# EAGLE library part 61901019521 (library Wurth_Connectors_WR-WTB)
WR-WTB 2.54 mm Male Right Angled Locking Header Top Locking KIND PROPERTIES: Pitch:2.54 mm Gender:Male MATERIAL PROPERTIES: Insulator Material :Nylon 66 Insulator Flammability Rating:UL94 V-0 Insulator Color:Beige Contact Material:Copper Alloy Contact Plating:Tin Contact Type:Stamped GENERAL INFORMATION Operating Temperature:-40 up to +105 °C Compliance: RoHS Working Voltage:250 V (AC) Withstanding Voltage:1000 V (AC) Contact Resistance:20 mΩ RISO:1000 MΩ CERTIFICATION UL Approval:E323964 PACKAGING PROPERTIES Packaging:Bag <https://katalog.we-online.com/media/images/v2/o33347v209%20Family_WR-WTB_6190xx19521.jpg> Details see: https://katalog.we-online.com/en/em/WTB_2_54_MALE_RIGHT_ANGLED_TOP_LOCKING_6190XX19521 Updated by Yingchun,Shan 2019-11-05 2019 (C) Würth Elektronik
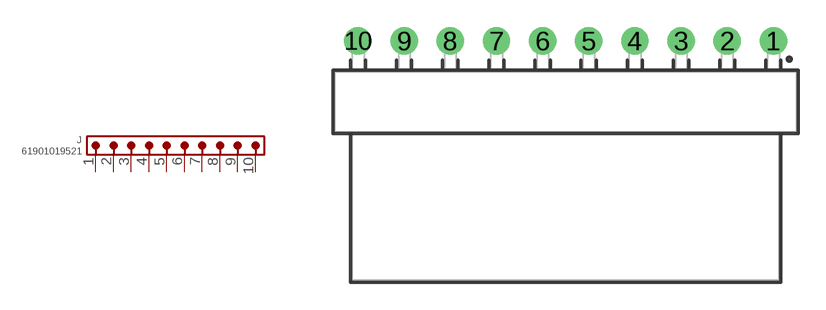
[diagram p101: symbol with the pads of 61901019521; footprint 61901019521]

Designator prefix J

## 61901019521 (CONTACT-RESISTANCE: 20mOhm; DATASHEET-URL: https://www.we-online.com/redexpert/spec/61901019521?ae; GENDER: Male; L: 25.4mm; MOUNT: THT; PACKAGING: Bag; PART-NUMBER: 61901019521; PCB-CABLE-PANEL: PCB; PINS: 10; PITCH: 2.54mm; TYPE: Right Angled Top Locking; VALUE: 61901019521; WORKING-VOLTAGE: 250V(AC))  [61901019521]
1  1  pas
2  2  pas
3  3  pas
4  4  pas
5  5  pas
6  6  pas
7  7  pas
8  8  pas
9  9  pas
10  10  pas

## Footprint 61901019521 (pad centres in mm)
WR-WTB 2.54 mm Male Right Angled Locking Header Top Locking,10 Pins
drill 1: 1 11.43,3.35; 2 8.89,3.35; 3 6.35,3.35; 4 3.81,3.35; 5 1.27,3.35; 6 -1.27,3.35; 7 -3.81,3.35; 8 -6.35,3.35; 9 -8.89,3.35; 10 -11.43,3.35